# Altium schematic symbol library FiltrosRF.SchLib: 3 symbols
Pins are listed as number, name and electrical type; pins without a type are passive.

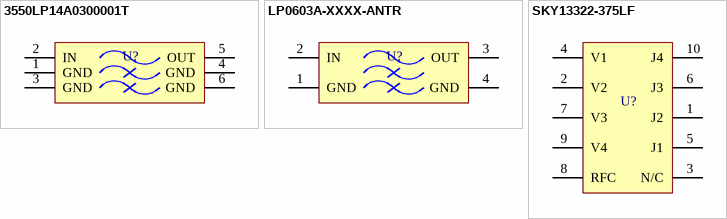
[diagram p0: symbols 3550LP14A0300001T to SKY13322-375LF]

## 3550LP14A0300001T
designator U?  (value not drawn)
RF FILTER LOW PASS  0603
pins: 1 GND, 2 IN, 3 GND, 4 GND, 5 OUT, 6 GND

## LP0603A-XXXX-ANTR
designator U?  (value not drawn)
RF FILTER 0603
pins: 1 GND, 2 IN, 3 OUT, 4 GND

## SKY13322-375LF
designator U?  (value not drawn)
RF Switch IC General Purpose SP4T 6 GHz 50Ohm 10-MLPD (3x2)
pins: 1 J2, 2 V2, 3 N/C, 4 V1, 5 J1, 6 J3, 7 V3, 8 RFC, 9 V4, 10 J4